# Altium schematic symbol library IC_TI_HD3SS3212RKSR.SchLib: 1 symbol
Pins are listed as number, name and electrical type; pins without a type are passive.

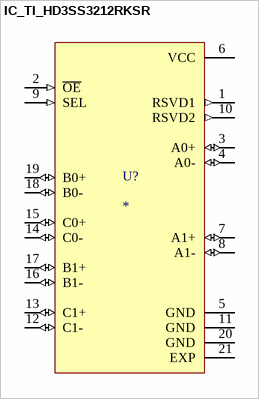
[diagram p0: symbol IC_TI_HD3SS3212RKSR]

## IC_TI_HD3SS3212RKSR
designator U?
2-channel 10-Gbps 2:1/1:2 USB 3.1 differential mux/demux; MF: Texas Instruments; MP: HD3SS3212RKSR; SnapEDA_Link: https://www.snapeda.com/parts/HD3SS3212RKSR/Texas+Instruments/view-part/?ref=snap; Package: VQFN-20 Texas Instruments; Value: *; Check_prices: https://www.snapeda.com/parts/HD3SS3212RKSR/Texas+Instruments/view-part/?ref=eda
footprint IC_TI_HD3SS3212RKSR
pins: 1 RSVD1 (out), 2 ~{OE} (in), 3 A0+ (io), 4 A0- (io), 5 GND (power), 6 VCC (power), 7 A1+ (io), 8 A1- (io), 9 SEL (in), 10 RSVD2 (out), 11 GND (power), 12 C1- (io), 13 C1+ (io), 14 C0- (io), 15 C0+ (io), 16 B1- (io), 17 B1+ (io), 18 B0- (io), 19 B0+ (io), 20 GND (power), 21 EXP (power)